# Altium footprint library R0402 (2).PcbLib: 1 footprints
Each footprint in its own frame and in the unit in brackets; x right, y up, seen from the top. Pads: shape width x height; smd on the part's side, far side on the other; paste and mask are expansions set on the pad; w line width, h text height; cw(c..) or ccw(c..) is an arc to the next point about the centre after c.
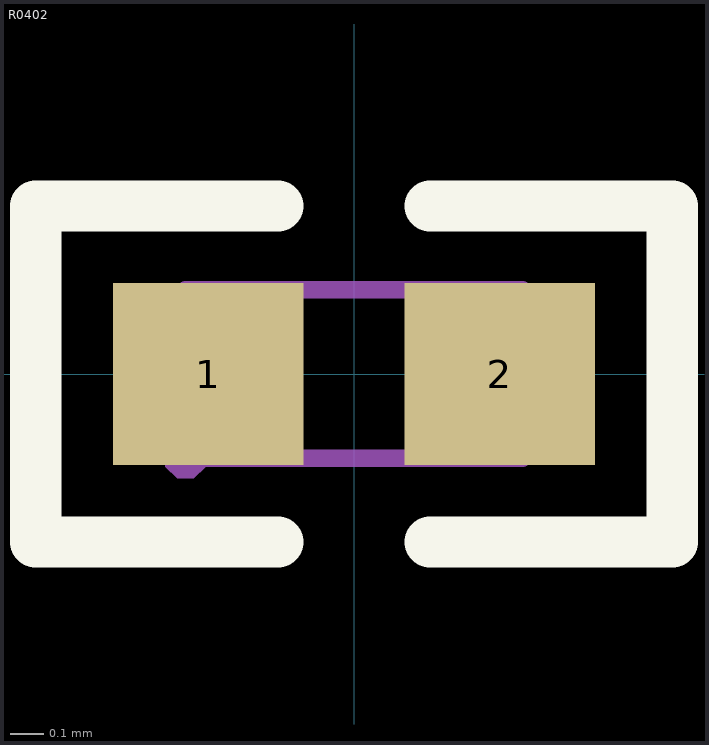
[diagram p0: the footprint, top view; thin cyan lines are the x and y axes]

## R0402 [mm]
pads (2):
  rect 0.566x0.54 smd paste-100 mask+0.051: 1(-0.433,0) 2(0.433,0)
Top Overlay:
  lines w0.152: -0.226,-0.499 -0.944,-0.499 -0.944,0.499 -0.226,0.499 ; 0.226,-0.499 0.944,-0.499 0.944,0.499 0.226,0.499
Top Paste:
  region: -0.135,-0.23 -0.135,0.23 -0.175,0.27 -0.676,0.27 -0.716,0.23 -0.716,-0.23 -0.676,-0.27 -0.175,-0.27
  region: 0.135,-0.23 0.135,0.23 0.175,0.27 0.676,0.27 0.716,0.23 0.716,-0.23 0.676,-0.27 0.175,-0.27
Mechanical 6:
  lines w0.051: -0.5,-0.25 0.5,-0.25 0.5,0.25 -0.5,0.25 -0.5,-0.25
Mechanical 8:
  region: -0.44,-0.25 -0.44,-0.275 -0.475,-0.31 -0.525,-0.31 -0.56,-0.275 -0.56,-0.25 -0.56,-0.225 -0.525,-0.19 -0.475,-0.19 -0.44,-0.225 -0.44,-0.25
Mechanical 9:
  region: -0.249,0.25 -0.249,-0.25 -0.499,-0.25 -0.499,0.25
  region: 0.251,-0.25 0.251,0.25 0.501,0.25 0.501,-0.25